# EAGLE library part DM1AA-SF-PEJ(82) (library hirose)
SD Card and MMC Reader (Standard Type) Source: http://www.hirose.co.jp/catalogj_hp/j60900048.pdf
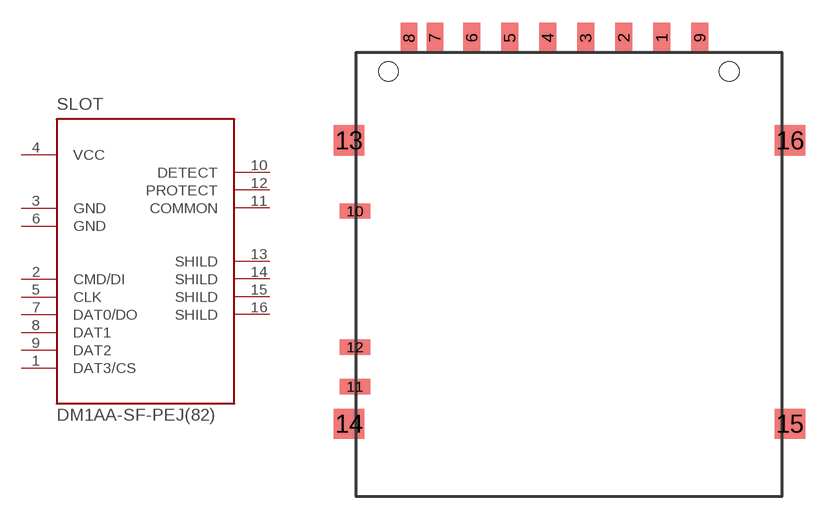
[diagram p1: symbol with the pads of DM1AA-SF-PEJ(82); footprint DM1AA-SF-PEJ(82)]

Designator prefix SLOT

## DM1AA-SF-PEJ(82)  [DM1AA-SF-PEJ(82)]
1  DAT3/CS
2  CMD/DI  in
3  GND  pwr
4  VCC  pwr
5  CLK  in
6  GND  pwr
7  DAT0/DO
8  DAT1
9  DAT2
10  DETECT  pas
11  COMMON  pas
12  PROTECT  pas
13  SHILD  pas
14  SHILD  pas
15  SHILD  pas
16  SHILD  pas

## Footprint DM1AA-SF-PEJ(82) (pad centres in mm)
SD Card and MMC Reader (Standard Type) Source: http://www.hirose.co.jp/catalogj_hp/j60900048.pdf
smd 1.1 x 2: 1 17.975,2.2; 2 15.475,2.2; 3 12.975,2.2; 4 10.475,2.2; 5 7.975,2.2; 6 5.475,2.2; 7 3.05,2.2; 8 1.35,2.2; 9 20.475,2.2
smd 2 x 1: 10 -2.2,-9.2; 11 -2.2,-20.75; 12 -2.2,-18.15
smd 2 x 2: 13 -2.6,-4.55; 14 -2.6,-23.2; 15 26.4,-23.2; 16 26.4,-4.55
hole 1.3 at 0,0
hole 1.3 at 22.4,0